# EAGLE library part ICE40HX8K-CT256 (library xmosxl)
FPGA iCE40 HX Family 7680 Cells 40nm Technology 1.2V 256-Pin CSBGA Source: Datasheet <https://www.arrow.com/en/products/ice40hx8k-ct256/lattice-semiconductor>
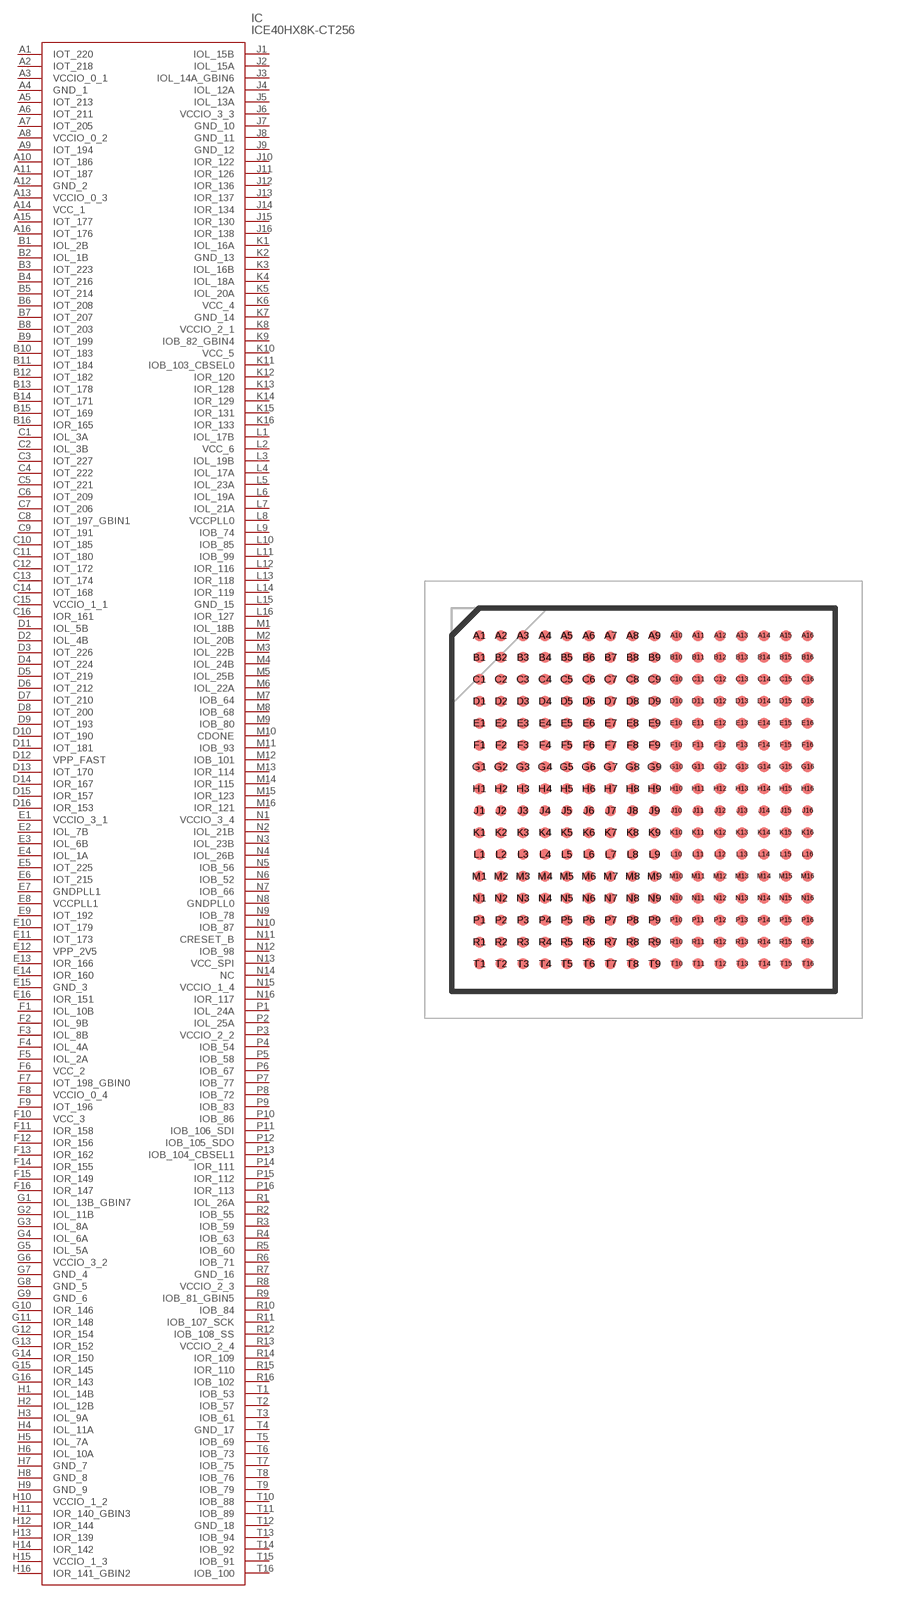
[diagram p3: symbol with the pads of BGA256C80P16X16_1400X1400X170; footprint BGA256C80P16X16_1400X1400X170]

Designator prefix IC

## ICE40HX8K-CT256 (ARROW_PART_NUMBER: ICE40HX8K-CT256; ARROW_PRICE-STOCK: https://www.arrow.com/en/products/ice40hx8k-ct256/lattice-semiconductor; DESCRIPTION: FPGA iCE40 HX Family 7680 Cells 40nm Technology 1.2V 256-Pin CSBGA; HEIGHT: 1.7mm; MANUFACTURER_NAME: Lattice Semiconductor; MANUFACTURER_PART_NUMBER: ICE40HX8K-CT256; MOUSER_PART_NUMBER: 842-ICE40HX8K-CT256; MOUSER_PRICE-STOCK: https://www.mouser.co.uk/ProductDetail/Lattice/iCE40HX8K-CT256?qs=F9A14TELRMtUXwpvAxLNcw%3D%3D)  [BGA256C80P16X16_1400X1400X170]
A1  IOT_220
A2  IOT_218
A3  VCCIO_0_1
A4  GND_1
A5  IOT_213
A6  IOT_211
A7  IOT_205
A8  VCCIO_0_2
A9  IOT_194
A10  IOT_186
A11  IOT_187
A12  GND_2
A13  VCCIO_0_3
A14  VCC_1
A15  IOT_177
A16  IOT_176
B1  IOL_2B
B2  IOL_1B
B3  IOT_223
B4  IOT_216
B5  IOT_214
B6  IOT_208
B7  IOT_207
B8  IOT_203
B9  IOT_199
B10  IOT_183
B11  IOT_184
B12  IOT_182
B13  IOT_178
B14  IOT_171
B15  IOT_169
B16  IOR_165
C1  IOL_3A
C2  IOL_3B
C3  IOT_227
C4  IOT_222
C5  IOT_221
C6  IOT_209
C7  IOT_206
C8  IOT_197_GBIN1
C9  IOT_191
C10  IOT_185
C11  IOT_180
C12  IOT_172
C13  IOT_174
C14  IOT_168
C15  VCCIO_1_1
C16  IOR_161
D1  IOL_5B
D2  IOL_4B
D3  IOT_226
D4  IOT_224
D5  IOT_219
D6  IOT_212
D7  IOT_210
D8  IOT_200
D9  IOT_193
D10  IOT_190
D11  IOT_181
D12  VPP_FAST
D13  IOT_170
D14  IOR_167
D15  IOR_157
D16  IOR_153
E1  VCCIO_3_1
E2  IOL_7B
E3  IOL_6B
E4  IOL_1A
E5  IOT_225
E6  IOT_215
E7  GNDPLL1
E8  VCCPLL1
E9  IOT_192
E10  IOT_179
E11  IOT_173
E12  VPP_2V5
E13  IOR_166
E14  IOR_160
E15  GND_3
E16  IOR_151
F1  IOL_10B
F2  IOL_9B
F3  IOL_8B
F4  IOL_4A
F5  IOL_2A
F6  VCC_2
F7  IOT_198_GBIN0
F8  VCCIO_0_4
F9  IOT_196
F10  VCC_3
F11  IOR_158
F12  IOR_156
F13  IOR_162
F14  IOR_155
F15  IOR_149
F16  IOR_147
G1  IOL_13B_GBIN7
G2  IOL_11B
G3  IOL_8A
G4  IOL_6A
G5  IOL_5A
G6  VCCIO_3_2
G7  GND_4
G8  GND_5
G9  GND_6
G10  IOR_146
G11  IOR_148
G12  IOR_154
G13  IOR_152
G14  IOR_150
G15  IOR_145
G16  IOR_143
H1  IOL_14B
H2  IOL_12B
H3  IOL_9A
H4  IOL_11A
H5  IOL_7A
H6  IOL_10A
H7  GND_7
H8  GND_8
H9  GND_9
H10  VCCIO_1_2
H11  IOR_140_GBIN3
H12  IOR_144
H13  IOR_139
H14  IOR_142
H15  VCCIO_1_3
H16  IOR_141_GBIN2
J1  IOL_15B
J2  IOL_15A
J3  IOL_14A_GBIN6
J4  IOL_12A
J5  IOL_13A
J6  VCCIO_3_3
J7  GND_10
J8  GND_11
J9  GND_12
J10  IOR_122
J11  IOR_126
J12  IOR_136
J13  IOR_137
J14  IOR_134
J15  IOR_130
J16  IOR_138
K1  IOL_16A
K2  GND_13
K3  IOL_16B
K4  IOL_18A
K5  IOL_20A
K6  VCC_4
K7  GND_14
K8  VCCIO_2_1
K9  IOB_82_GBIN4
K10  VCC_5
K11  IOB_103_CBSEL0
K12  IOR_120
K13  IOR_128
K14  IOR_129
K15  IOR_131
K16  IOR_133
L1  IOL_17B
L2  VCC_6
L3  IOL_19B
L4  IOL_17A
L5  IOL_23A
L6  IOL_19A
L7  IOL_21A
L8  VCCPLL0
L9  IOB_74
L10  IOB_85
L11  IOB_99
L12  IOR_116
L13  IOR_118
L14  IOR_119
L15  GND_15
L16  IOR_127
M1  IOL_18B
M2  IOL_20B
M3  IOL_22B
M4  IOL_24B
M5  IOL_25B
M6  IOL_22A
M7  IOB_64
M8  IOB_68
M9  IOB_80
M10  CDONE
M11  IOB_93
M12  IOB_101
M13  IOR_114
M14  IOR_115
M15  IOR_123
M16  IOR_121
N1  VCCIO_3_4
N2  IOL_21B
N3  IOL_23B
N4  IOL_26B
N5  IOB_56
N6  IOB_52
N7  IOB_66
N8  GNDPLL0
N9  IOB_78
N10  IOB_87
N11  CRESET_B
N12  IOB_98
N13  VCC_SPI
N14  NC  nc
N15  VCCIO_1_4
N16  IOR_117
P1  IOL_24A
P2  IOL_25A
P3  VCCIO_2_2
P4  IOB_54
P5  IOB_58
P6  IOB_67
P7  IOB_77
P8  IOB_72
P9  IOB_83
P10  IOB_86
P11  IOB_106_SDI
P12  IOB_105_SDO
P13  IOB_104_CBSEL1
P14  IOR_111
P15  IOR_112
P16  IOR_113
R1  IOL_26A
R2  IOB_55
R3  IOB_59
R4  IOB_63
R5  IOB_60
R6  IOB_71
R7  GND_16
R8  VCCIO_2_3
R9  IOB_81_GBIN5
R10  IOB_84
R11  IOB_107_SCK
R12  IOB_108_SS
R13  VCCIO_2_4
R14  IOR_109
R15  IOR_110
R16  IOB_102
T1  IOB_53
T2  IOB_57
T3  IOB_61
T4  GND_17
T5  IOB_69
T6  IOB_73
T7  IOB_75
T8  IOB_76
T9  IOB_79
T10  IOB_88
T11  IOB_89
T12  GND_18
T13  IOB_94
T14  IOB_92
T15  IOB_91
T16  IOB_100

## Footprint BGA256C80P16X16_1400X1400X170 (pad centres in mm)
256-Ball caBGA Package
smd 0.41 x 0.41: A1 -6,6; A2 -5.2,6; A3 -4.4,6; A4 -3.6,6; A5 -2.8,6; A6 -2,6; A7 -1.2,6; A8 -0.4,6; A9 0.4,6; A10 1.2,6; A11 2,6; A12 2.8,6; A13 3.6,6; A14 4.4,6; A15 5.2,6; A16 6,6; B1 -6,5.2; B2 -5.2,5.2; B3 -4.4,5.2; B4 -3.6,5.2; B5 -2.8,5.2; B6 -2,5.2; B7 -1.2,5.2; B8 -0.4,5.2; B9 0.4,5.2; B10 1.2,5.2; B11 2,5.2; B12 2.8,5.2; B13 3.6,5.2; B14 4.4,5.2; B15 5.2,5.2; B16 6,5.2; C1 -6,4.4; C2 -5.2,4.4; C3 -4.4,4.4; C4 -3.6,4.4; C5 -2.8,4.4; C6 -2,4.4; C7 -1.2,4.4; C8 -0.4,4.4; C9 0.4,4.4; C10 1.2,4.4; C11 2,4.4; C12 2.8,4.4; C13 3.6,4.4; C14 4.4,4.4; C15 5.2,4.4; C16 6,4.4; D1 -6,3.6; D2 -5.2,3.6; D3 -4.4,3.6; D4 -3.6,3.6; D5 -2.8,3.6; D6 -2,3.6; D7 -1.2,3.6; D8 -0.4,3.6; D9 0.4,3.6; D10 1.2,3.6; D11 2,3.6; D12 2.8,3.6; D13 3.6,3.6; D14 4.4,3.6; D15 5.2,3.6; D16 6,3.6; E1 -6,2.8; E2 -5.2,2.8; E3 -4.4,2.8; E4 -3.6,2.8; E5 -2.8,2.8; E6 -2,2.8; E7 -1.2,2.8; E8 -0.4,2.8; E9 0.4,2.8; E10 1.2,2.8; E11 2,2.8; E12 2.8,2.8; E13 3.6,2.8; E14 4.4,2.8; E15 5.2,2.8; E16 6,2.8; F1 -6,2; F2 -5.2,2; F3 -4.4,2; F4 -3.6,2; F5 -2.8,2; F6 -2,2; F7 -1.2,2; F8 -0.4,2; F9 0.4,2; F10 1.2,2; F11 2,2; F12 2.8,2; F13 3.6,2; F14 4.4,2; F15 5.2,2; F16 6,2; G1 -6,1.2; G2 -5.2,1.2; G3 -4.4,1.2; G4 -3.6,1.2; G5 -2.8,1.2; G6 -2,1.2; G7 -1.2,1.2; G8 -0.4,1.2; G9 0.4,1.2; G10 1.2,1.2; G11 2,1.2; G12 2.8,1.2; G13 3.6,1.2; G14 4.4,1.2; G15 5.2,1.2; G16 6,1.2; H1 -6,0.4; H2 -5.2,0.4; H3 -4.4,0.4; H4 -3.6,0.4; H5 -2.8,0.4; H6 -2,0.4; H7 -1.2,0.4; H8 -0.4,0.4; H9 0.4,0.4; H10 1.2,0.4; H11 2,0.4; H12 2.8,0.4; H13 3.6,0.4; H14 4.4,0.4; H15 5.2,0.4; H16 6,0.4; J1 -6,-0.4; J2 -5.2,-0.4; J3 -4.4,-0.4; J4 -3.6,-0.4; J5 -2.8,-0.4; J6 -2,-0.4; J7 -1.2,-0.4; J8 -0.4,-0.4; J9 0.4,-0.4; J10 1.2,-0.4; J11 2,-0.4; J12 2.8,-0.4; J13 3.6,-0.4; J14 4.4,-0.4; J15 5.2,-0.4; J16 6,-0.4; K1 -6,-1.2; K2 -5.2,-1.2; K3 -4.4,-1.2; K4 -3.6,-1.2; K5 -2.8,-1.2; K6 -2,-1.2; K7 -1.2,-1.2; K8 -0.4,-1.2; K9 0.4,-1.2; K10 1.2,-1.2; K11 2,-1.2; K12 2.8,-1.2; K13 3.6,-1.2; K14 4.4,-1.2; K15 5.2,-1.2; K16 6,-1.2; L1 -6,-2; L2 -5.2,-2; L3 -4.4,-2; L4 -3.6,-2; L5 -2.8,-2; L6 -2,-2; L7 -1.2,-2; L8 -0.4,-2; L9 0.4,-2; L10 1.2,-2; L11 2,-2; L12 2.8,-2; L13 3.6,-2; L14 4.4,-2; L15 5.2,-2; L16 6,-2; M1 -6,-2.8; M2 -5.2,-2.8; M3 -4.4,-2.8; M4 -3.6,-2.8; M5 -2.8,-2.8; M6 -2,-2.8; M7 -1.2,-2.8; M8 -0.4,-2.8; M9 0.4,-2.8; M10 1.2,-2.8; M11 2,-2.8; M12 2.8,-2.8; M13 3.6,-2.8; M14 4.4,-2.8; M15 5.2,-2.8; M16 6,-2.8; N1 -6,-3.6; N2 -5.2,-3.6; N3 -4.4,-3.6; N4 -3.6,-3.6; N5 -2.8,-3.6; N6 -2,-3.6; N7 -1.2,-3.6; N8 -0.4,-3.6; N9 0.4,-3.6; N10 1.2,-3.6; N11 2,-3.6; N12 2.8,-3.6; N13 3.6,-3.6; N14 4.4,-3.6; N15 5.2,-3.6; N16 6,-3.6; P1 -6,-4.4; P2 -5.2,-4.4; P3 -4.4,-4.4; P4 -3.6,-4.4; P5 -2.8,-4.4; P6 -2,-4.4; P7 -1.2,-4.4; P8 -0.4,-4.4; P9 0.4,-4.4; P10 1.2,-4.4; P11 2,-4.4; P12 2.8,-4.4; P13 3.6,-4.4; P14 4.4,-4.4; P15 5.2,-4.4; P16 6,-4.4; R1 -6,-5.2; R2 -5.2,-5.2; R3 -4.4,-5.2; R4 -3.6,-5.2; R5 -2.8,-5.2; R6 -2,-5.2; R7 -1.2,-5.2; R8 -0.4,-5.2; R9 0.4,-5.2; R10 1.2,-5.2; R11 2,-5.2; R12 2.8,-5.2; R13 3.6,-5.2; R14 4.4,-5.2; R15 5.2,-5.2; R16 6,-5.2; T1 -6,-6; T2 -5.2,-6; T3 -4.4,-6; T4 -3.6,-6; T5 -2.8,-6; T6 -2,-6; T7 -1.2,-6; T8 -0.4,-6; T9 0.4,-6; T10 1.2,-6; T11 2,-6; T12 2.8,-6; T13 3.6,-6; T14 4.4,-6; T15 5.2,-6; T16 6,-6